# EAGLE library part CONN_PXC-8-RA-1778683 (library X16_Backplane)
Backplane to Solenoid Connector
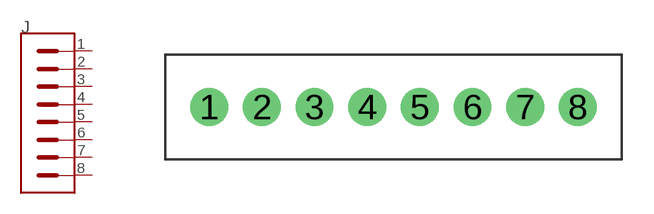
[diagram p0: symbol with the pads of PXC-8-RA-1778683; footprint PXC-8-RA-1778683]

Designator prefix J

## CONN_PXC-8-RA-1778683  [PXC-8-RA-1778683]
1  1  pas
2  2  pas
3  3  pas
4  4  pas
5  5  pas
6  6  pas
7  7  pas
8  8  pas

## Footprint PXC-8-RA-1778683 (pad centres in mm)
drill 1.1 pad 1.8: 1 0,0; 3 5,0; 4 7.5,0; 5 10,0; 6 12.5,0; 7 15,0; 8 17.5,0
drill 1 pad 1.8: 2 2.5,0